# Altium schematic symbol library ACPL-C87B-000E.SchLib: 1 symbol
Pins are listed as number, name and electrical type; pins without a type are passive.

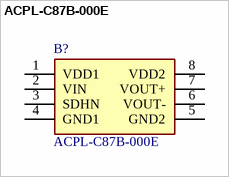
[diagram p0: symbol ACPL-C87B-000E]

## ACPL-C87B-000E
designator B?
Optically isolated voltage sensor,SSO8 Broadcom ACPL-C87B-000E, Isolation Amplifier, 4.5  5.5 V, 8-Pin SSO; Manufacturer_Name: Avago Technologies; Geometry.Height: 3.307mm; Mouser Part Number: 630-ACPL-C87B-000E; Mouser Price/Stock: https://www.mouser.co.uk/ProductDetail/Broadcom-Avago/ACPL-C87B-000E?qs=mhB89zxvawmLiWfngQW5pg%3D%3D; Manufacturer_Part_Number: ACPL-C87B-000E; Datasheet Link: https://componentsearchengine.com/Datasheets/2/ACPL-C87B-000E.pdf
footprint SOIC127P1150X331-8N
pins: 1 VDD1, 2 VIN, 3 SDHN, 4 GND1, 5 GND2, 6 VOUT-, 7 VOUT+, 8 VDD2